# Altium footprint library CAP's.PcbLib: 41 footprints (part 3 of 3)
Each footprint in its own frame and in the unit in brackets; x right, y up, seen from the top. Pads: shape width x height; smd on the part's side, far side on the other; paste and mask are expansions set on the pad; w line width, h text height; cw(c..) or ccw(c..) is an arc to the next point about the centre after c.
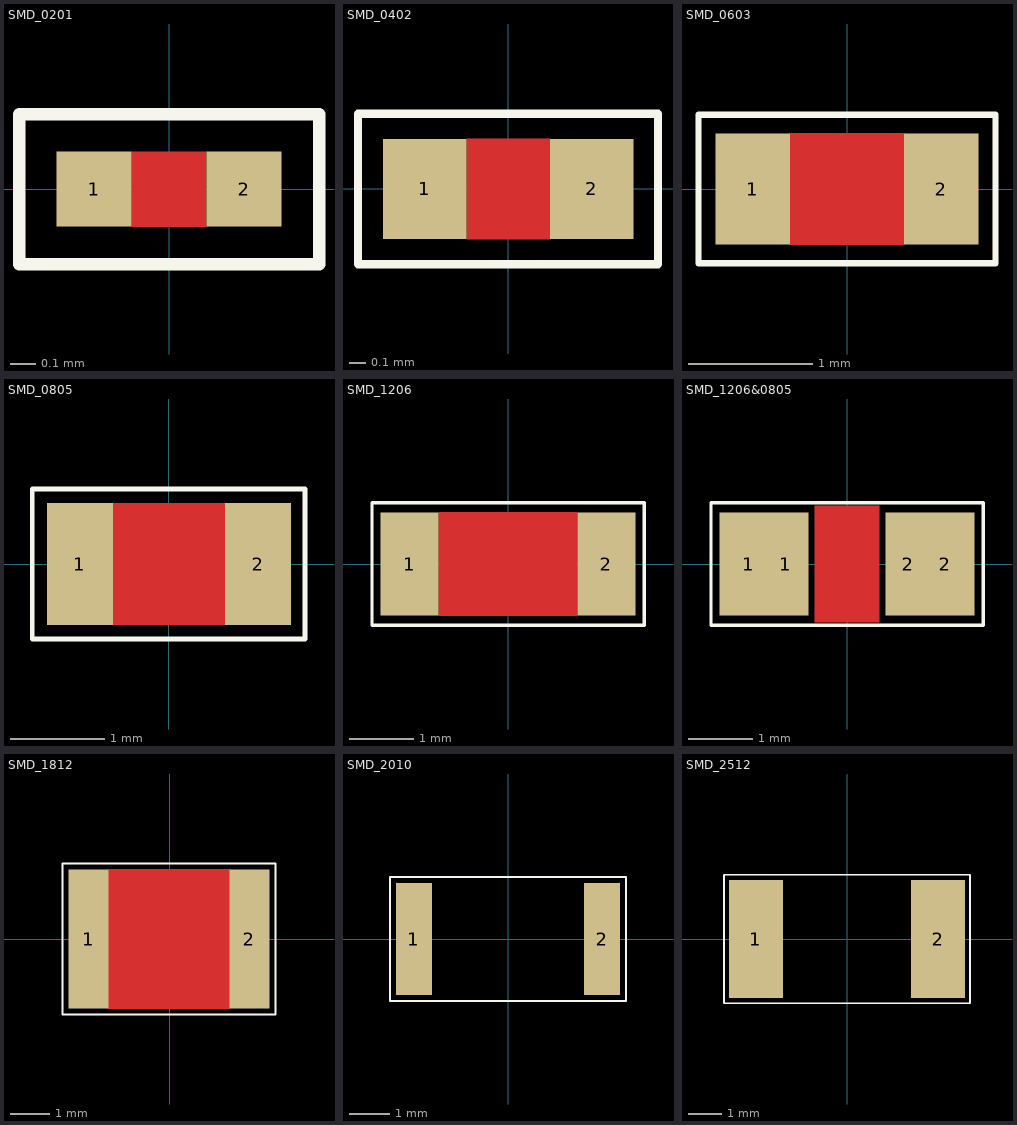
[diagram p2: the footprints below, top view; thin cyan lines are the x and y axes]

## SMD_0201 [mm] "0201/0603"
pads (2):
  rect 0.3x0.3 smd: 1(-0.3,0) 2(0.3,0)
Top Layer:
  pour cut-out: -0.15,0.15 0.15,0.15 0.15,-0.15 -0.15,-0.15
Top Overlay:
  lines w0.05: -0.6,-0.3 0.6,-0.3 0.6,0.3 -0.6,0.3 -0.6,-0.3
3D body "User Library-cap0201_cap0201_body.SLDPRT": height 0.26, standoff -0.01, extent -0.3,-0.15 0.3,0.15

## SMD_0402 [mm] "0402/1005"
pads (2):
  rect 0.5x0.6 smd: 1(-0.5,0) 2(0.5,0)
Top Layer:
  pour cut-out: -0.25,0.3 0.25,0.3 0.25,-0.3 -0.25,-0.3
Top Overlay:
  lines w0.05: -0.9,-0.45 -0.9,0.45 0.897,0.45 0.897,-0.45 -0.9,-0.45
3D body "0402-1005.step": height 0.35, standoff 0, extent -0.5,-0.25 0.5,0.25

## SMD_0603 [mm] "http://lionelectronic.ir/category/140-SMD-Ceramic-Capacitors?attributes[200][]=3348"
pads (2):
  rect 0.6x0.9 smd: 1(-0.762,0) 2(0.762,0)
Top Layer:
  pour cut-out: -0.462,0.45 0.462,0.45 0.462,-0.45 -0.462,-0.45
Top Overlay:
  lines w0.05: -1.2,-0.6 1.2,-0.6 1.2,0.6 -1.2,0.6 -1.2,-0.6
3D body "SMD CAP 0603.SLDPRT": height 1.07, standoff 0.19, extent -0.8,-0.405 0.8,0.405

## SMD_0805 [mm] "https://shop.roboticngo.com/275-%D8%AE%D8%A7%D8%B2%D9%86-smd-%D9%BE%DA%A9%DB%8C%D8%AC-0805"
pads (2):
  rect 0.7x1.3 smd: 1(-0.95,0) 2(0.95,0)
Top Layer:
  pour cut-out: -0.6,0.65 0.6,0.65 0.6,-0.65 -0.6,-0.65
Top Overlay:
  lines w0.05: -1.458,-0.8 -1.458,0.8 1.45,0.8 1.45,-0.8 -1.458,-0.8
3D body "SMD CAP 0805.SLDPRT": height 0.91, standoff -0.01, extent -1.009,-0.625 1.001,0.625

## SMD_1206 [mm] "https://shop.roboticngo.com/164-%D8%AE%D8%A7%D8%B2%D9%86-smd-%D9%BE%DA%A9%DB%8C%D8%AC-1206"
pads (2):
  rect 0.9x1.6 smd: 1(-1.524,0) 2(1.524,0)
Top Layer:
  pour cut-out: -1.073,0.801 1.074,0.801 1.074,-0.799 -1.073,-0.799
Top Overlay:
  lines w0.05: -2.109,-0.95 -2.109,0.95 2.112,0.95 2.112,-0.95 -2.109,-0.95
3D body "SMD CAP 1206.SLDPRT": height 0.92, standoff -0.02, extent -1.599,-0.8 1.601,0.8

## SMD_1206&0805 [mm]
pads (4):
  rect 0.9x1.6 smd: 1(-1.524,0) 2(1.524,0)
  rect 0.7x1.6 smd: 1(-0.95,0) 2(0.95,0)
Top Layer:
  pour cut-out: -0.499,0.902 0.498,0.902 0.498,-0.899 -0.499,-0.899
Top Overlay:
  lines w0.05: -2.109,-0.95 -2.109,0.95 2.112,0.95 2.112,-0.95 -2.109,-0.95
3D body "SW3dPS-1206 SMD Capacitor.STEP": height 1, standoff 0, extent -1.6,-0.8 1.6,0.8

## SMD_1812 [mm] "1812/3246"
pads (2):
  rect 1x3.5 smd: 1(-2.05,0) 2(2,0)
Top Layer:
  pour cut-out: -1.55,1.75 -1.55,-1.75 1.5,-1.75 1.5,1.75
Top Overlay:
  lines w0.05: -2.7,-1.9 2.65,-1.9 2.65,1.9 -2.7,1.9 -2.7,-1.9
3D body "SMD CAP 1812.SLDPRT": height 1.22, standoff -0.02, extent -2.275,-1.6 2.225,1.6

## SMD_2010 [mm] "2010/5025"
pads (2):
  rect 0.9x2.8 smd: 1(-2.35,0) 2(2.35,0)
Top Overlay:
  lines w0.05: -2.95,-1.55 -2.95,1.55 2.95,1.55 2.95,-1.55 -2.95,-1.55
3D body "2010-5025.step": height 0.6, standoff 0, extent -2.5,-1.25 2.5,1.25

## SMD_2512 [mm] "2512/6332"
pads (2):
  rect 1.6x3.5 smd: 1(-2.7,0) 2(2.7,0)
Top Overlay:
  lines w0.05: -3.65,-1.905 -3.65,1.905 3.65,1.905 3.65,-1.905 -3.65,-1.905
3D body "2512-6332.step": height 0.6, standoff 0, extent -3.2,-1.6 3.2,1.6